# Altium schematic symbol library p-mosfet_1.Schlib: 1 symbol
Pins are listed as number, name and electrical type; pins without a type are passive.

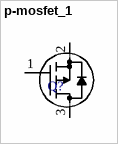
[diagram p0: symbol p-mosfet_1]

## p-mosfet_1
designator Q?  (value not drawn)
P-Channel MOSFET w/ Body Diode 3 Terminal
pins: 1 G, 2 S, 3 D